# EAGLE library part TPS73001 (library ICs)
TPS730 Low-Noise, High PSRR, RF, 200-mA Low-Dropout Linear Regulators
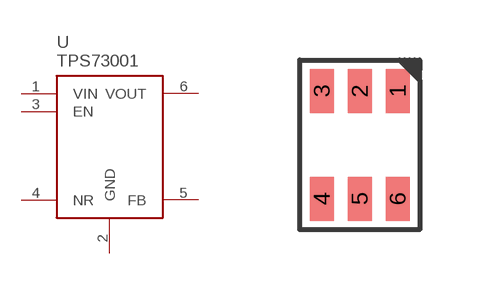
[diagram p163: symbol with the pads of SOT23-6; footprint SOT23-6]

Designator prefix U

## TPS73001 (FARNELL: 2764690; PRICE_PER: 0.629; VALUE: TPS73001)  [SOT23-6]
1  VIN
2  GND
3  EN
4  NR
5  FB
6  VOUT

## Footprint SOT23-6 (pad centres in mm)
smd 0.6 x 1.1: 1 0.95,1.35; 2 0,1.35; 3 -0.95,1.35; 4 -0.95,-1.35; 5 0,-1.35; 6 0.95,-1.35